# Altium schematic symbol library MKKDS 1 9-3.81.Schlib: 1 symbol
Pins are listed as number, name and electrical type; pins without a type are passive.

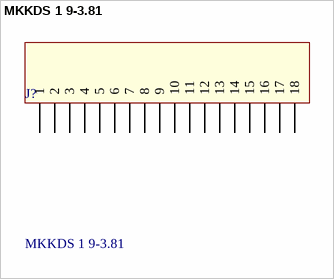
[diagram p0: symbol MKKDS 1 9-3.81]

## MKKDS 1 9-3.81
designator J?
pins: 1, 2, 3, 4, 5, 6, 7, 8, 9, 10, 11, 12, 13, 14, 15, 16, 17, 18